# Altium schematic symbol library RF Module.SchLib: 22 symbols
Pins are listed as number, name and electrical type; pins without a type are passive.

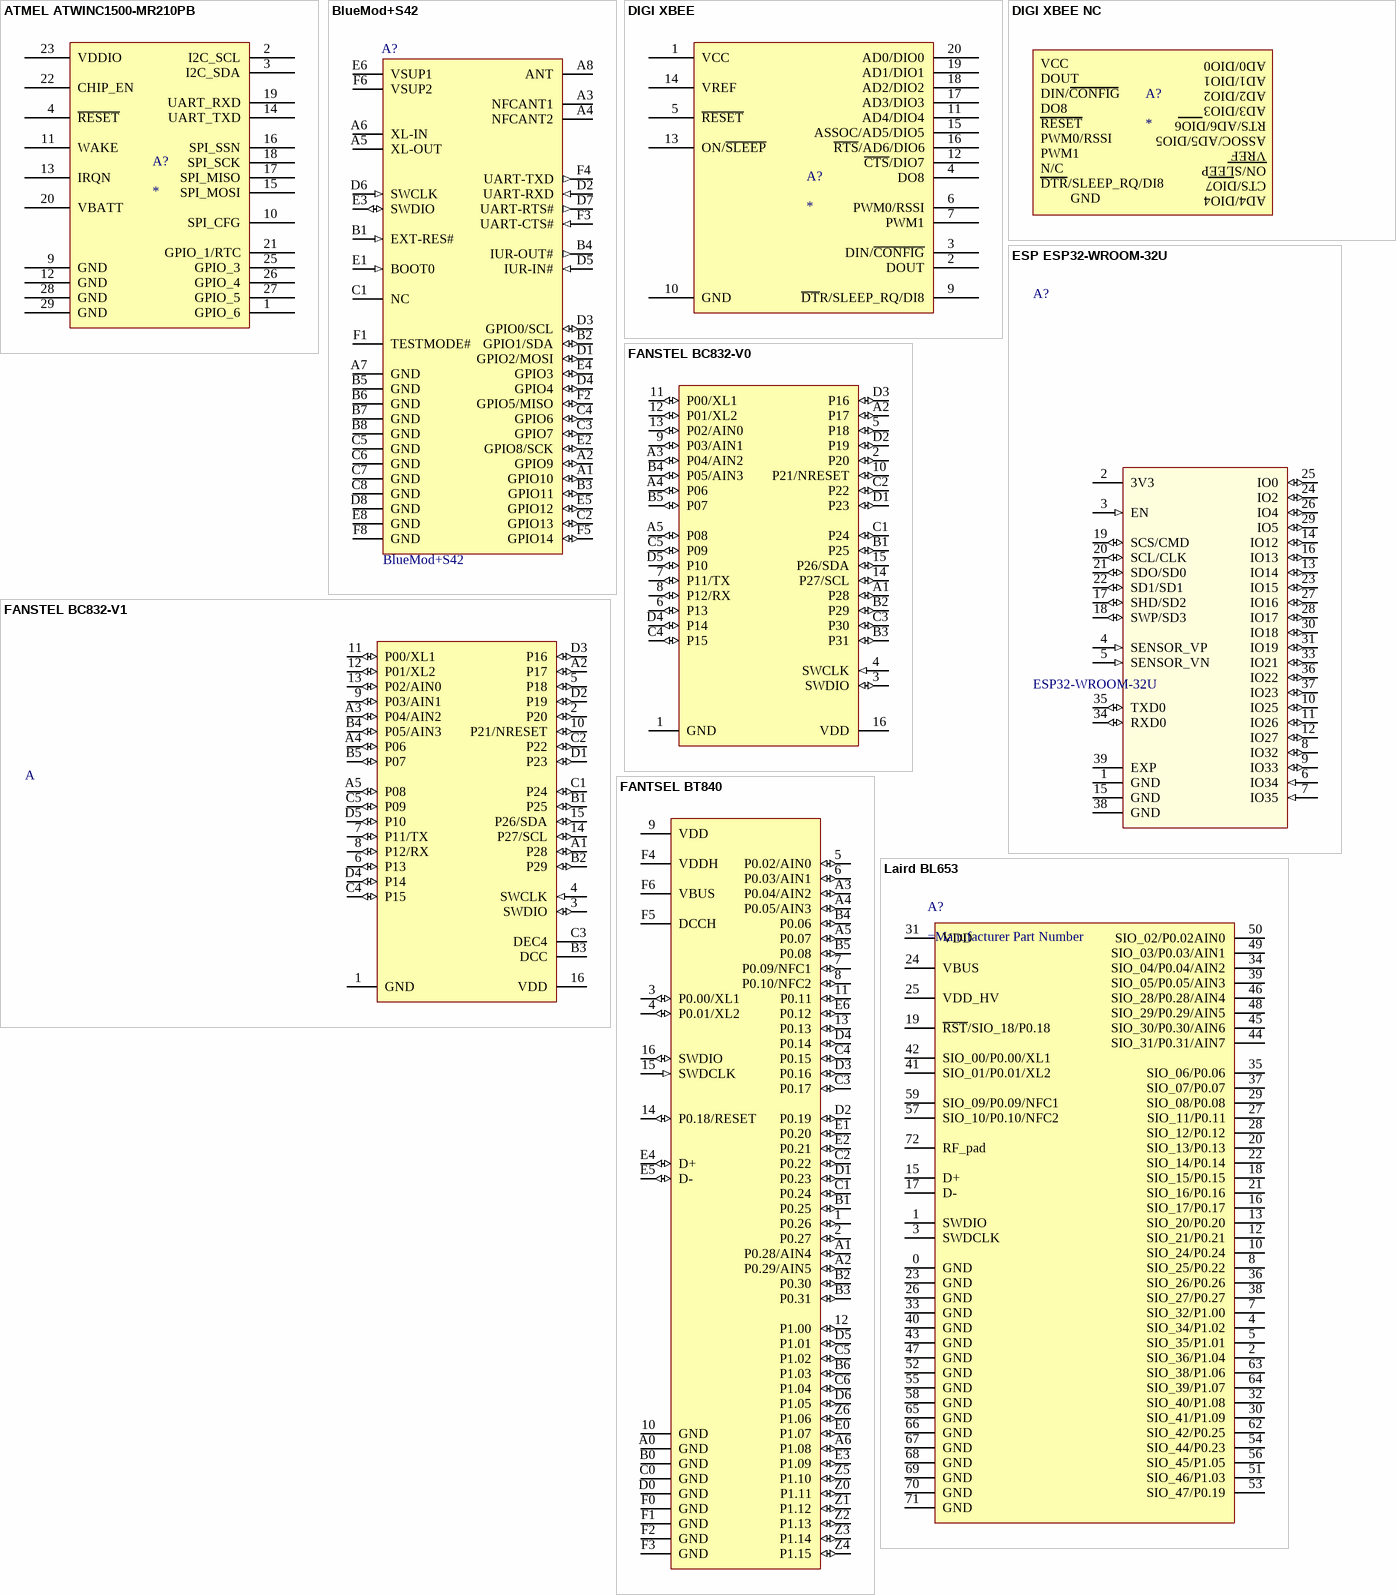
[diagram p0: symbols ATMEL ATWINC1500-MR210PB to Laird BL653]

## ATMEL ATWINC1500-MR210PB
designator A?
pins: 1 GPIO_6, 2 I2C_SCL, 3 I2C_SDA, 4 ~{RESET}, 9 GND, 10 SPI_CFG, 11 WAKE, 12 GND, 13 IRQN, 14 UART_TXD, 15 SPI_MOSI, 16 SPI_SSN, 17 SPI_MISO, 18 SPI_SCK, 19 UART_RXD, 20 VBATT, 21 GPIO_1/RTC, 22 CHIP_EN, 23 VDDIO, 25 GPIO_3, 26 GPIO_4, 27 GPIO_5, 28 GND, 29 GND

## BlueMod+S42
designator A?
The BlueMod+S42 is a high-performance Bluetooth 4.2 qualified single mode module.; Utilized IC/Part: nRF52832; Paket: Module; Satıcı: Digikey; Suplier Code: -96dBm; Frequency: 2.4GHz; Protocol: Bluetooth v4.2; Power Output: 4dBm; Antenna Type: Integrated, Chip; Voltage Supply: 1.8 - 3.6 V; Current Transmitting: 7.5mA; Depo Kodu: *; Satın Alma Linki: *; Datasheet: -; Manufacturer Code: BlueMod+S42; RF Family/Standard: Bluetooth; Modulation: -; Sensitivity: *; Data Rate: *; Current Receiving: -; Memory Size: -; Operating Temperature: -40°C ~ 85°C; Mounting Type: Surface Mount; Value: BlueMod+S42
footprint BlueMod+S42 (Bluetooth 4.2 Low Energy plug-and-play module)
pins: A1 GPIO10 (io), A2 GPIO9 (io), A3 NFCANT1, A4 NFCANT2, A5 XL-OUT, A6 XL-IN, A7 GND (power), A8 ANT (power), B1 EXT-RES# (in), B2 GPIO1/SDA (io), B3 GPIO11 (io), B4 IUR-OUT# (out), B5 GND (power), B6 GND (power), B7 GND (power), B8 GND (power), C1 NC (power), C2 GPIO13 (io), C3 GPIO7 (io), C4 GPIO6 (io), C5 GND (power), C6 GND (power), C7 GND (power), C8 GND (power), D1 GPIO2/MOSI (io), D2 UART-RXD (in), D3 GPIO0/SCL (io), D4 GPIO4 (io), D5 IUR-IN# (in), D6 SWCLK (in), D7 UART-RTS# (out), D8 GND (power), E1 BOOT0 (in), E2 GPIO8/SCK (io), E3 SWDIO (io), E4 GPIO3 (io), E5 GPIO12 (io), E6 VSUP1 (power), E8 GND (power), F1 TESTMODE#, F2 GPIO5/MISO (io), F3 UART-CTS# (in), F4 UART-TXD (out), F5 GPIO14 (io), F6 VSUP2 (power), F8 GND (power)

## DIGI XBEE
designator A?
pins: 1 VCC, 2 DOUT, 3 DIN/~{CONFIG}, 4 DO8, 5 ~{RESET}, 6 PWM0/RSSI, 7 PWM1, 9 ~{DT}R/SLEEP_RQ/DI8, 10 GND, 11 AD4/DIO4, 12 ~{CTS}/DIO7, 13 ON/~{SLEEP}, 14 VREF, 15 ASSOC/AD5/DIO5, 16 ~{RTS}/AD6/DIO6, 17 AD3/DIO3, 18 AD2/DIO2, 19 AD1/DIO1, 20 AD0/DIO0

## DIGI XBEE NC
designator A?
text: AD0/DIO0; VCC; AD1/DIO1; DOUT; AD2/DIO2; DIN/CONFIG; AD3/DIO3; DO8; RTS/AD6/DIO6; RESET; ASSOC/AD5/DIO5; PWM0/RSSI; VREF; PWM1; ON/SLEEP; N/C; CTS/DIO7; DTR/SLEEP_RQ/DI8; AD4/DIO4; GND

## ESP ESP32-WROOM-32U
designator A?, comment ESP32-WROOM-32U
Wi-Fi/BT BLE Module ESP32-D0WD SPI Flash UART U.FL Conn.
footprint ESP32-WROOM-32U
pins: 1 GND (power), 2 3V3 (power), 3 EN (in), 4 SENSOR_VP (in), 5 SENSOR_VN (in), 6 IO34 (in), 7 IO35 (in), 8 IO32 (io), 9 IO33 (io), 10 IO25 (io), 11 IO26 (io), 12 IO27 (io), 13 IO14 (io), 14 IO12 (io), 15 GND (power), 16 IO13 (io), 17 SHD/SD2 (io), 18 SWP/SD3 (io), 19 SCS/CMD (io), 20 SCL/CLK (io), 21 SDO/SD0 (io), 22 SD1/SD1 (io), 23 IO15 (io), 24 IO2 (io), 25 IO0 (io), 26 IO4 (io), 27 IO16 (io), 28 IO17 (io), 29 IO5 (io), 30 IO18 (io), 31 IO19 (io), 33 IO21 (io), 34 RXD0 (io), 35 TXD0 (io), 36 IO22 (io), 37 IO23 (io), 38 GND (power), 39 EXP (power)

## FANSTEL BC832-V0
designator A?
GateName_1: G$1; SymbolName_1: BC832-V0; LibraryName: BC832; DeviceSetName: BC832-V0; Package: BC832
footprint Fantsel BC832 (Fantsel BLE Micro Module Ver 2.0)
pins: 1 GND (power), 2 P20 (io), 3 SWDIO (io), 4 SWCLK (in), 5 P18 (io), 6 P13 (io), 7 P11/TX (io), 8 P12/RX (io), 9 P03/AIN1 (io), 10 P21/NRESET (io), 11 P00/XL1 (io), 12 P01/XL2 (io), 13 P02/AIN0 (io), 14 P27/SCL (io), 15 P26/SDA (io), 16 VDD (power), A1 P28 (io), A2 P17 (io), A3 P04/AIN2 (io), A4 P06 (io), A5 P08 (io), B1 P25 (io), B2 P29 (io), B3 P31 (io), B4 P05/AIN3 (io), B5 P07 (io), C1 P24 (io), C2 P22 (io), C3 P30 (io), C4 P15 (io), C5 P09 (io), D1 P23 (io), D2 P19 (io), D3 P16 (io), D4 P14 (io), D5 P10 (io)

## FANSTEL BC832-V1
designator A, comment B3 DCC ,C3 DEC4 for power saving , 10uH , 15nH  (value not drawn)
GateName_1: G$1; SymbolName_1: BC832-V1; LibraryName: BC832; DeviceSetName: BC832-V1; Package: BC832
footprint Fantsel BC832 (Fantsel BLE Micro Module Ver 2.0)
pins: 1 GND (power), 2 P20 (io), 3 SWDIO (io), 4 SWCLK (in), 5 P18 (io), 6 P13 (io), 7 P11/TX (io), 8 P12/RX (io), 9 P03/AIN1 (io), 10 P21/NRESET (io), 11 P00/XL1 (io), 12 P01/XL2 (io), 13 P02/AIN0 (io), 14 P27/SCL (io), 15 P26/SDA (io), 16 VDD (power), A1 P28 (io), A2 P17 (io), A3 P04/AIN2 (io), A4 P06 (io), A5 P08 (io), B1 P25 (io), B2 P29 (io), B3 DCC (power), B4 P05/AIN3 (io), B5 P07 (io), C1 P24 (io), C2 P22 (io), C3 DEC4 (power), C4 P15 (io), C5 P09 (io), D1 P23 (io), D2 P19 (io), D3 P16 (io), D4 P14 (io), D5 P10 (io)

## FANTSEL BT840
designator A?
footprint FANTSEL BT840
pins: 1 P0.26 (io), 2 P0.27 (io), 3 P0.00/XL1 (io), 4 P0.01/XL2 (io), 5 P0.02/AIN0 (io), 6 P0.03/AIN1 (io), 7 P0.09/NFC1 (io), 8 P0.10/NFC2 (io), 9 VDD (power), 10 GND (power), 11 P0.11 (io), 12 P1.00 (io), 13 P0.13 (io), 14 P0.18/RESET (io), 15 SWDCLK (in), 16 SWDIO (io), A0 GND (power), A1 P0.28/AIN4 (io), A2 P0.29/AIN5 (io), A3 P0.04/AIN2 (io), A4 P0.05/AIN3 (io), A5 P0.07 (io), A6 P1.08 (io), B0 GND (power), B1 P0.25 (io), B2 P0.30 (io), B3 P0.31 (io), B4 P0.06 (io), B5 P0.08 (io), B6 P1.03 (io), C0 GND (power), C1 P0.24 (io), C2 P0.22 (io), C3 P0.17 (io), C4 P0.15 (io), C5 P1.02 (io), C6 P1.04 (io), D0 GND (power), D1 P0.23 (io), D2 P0.19 (io), D3 P0.16 (io), D4 P0.14 (io), D5 P1.01 (io), D6 P1.05 (io), E0 P1.07 (io), E1 P0.20 (io), E2 P0.21 (io), E3 P1.09 (io), E4 D+ (io), E5 D- (io), E6 P0.12 (io), F0 GND (power), F1 GND (power), F2 GND (power), F3 GND (power), F4 VDDH (power), F5 DCCH (power), F6 VBUS (power), Z0 P1.11 (io), Z1 P1.12 (io), Z2 P1.13 (io), Z3 P1.14 (io), Z4 P1.15 (io), Z5 P1.10 (io), Z6 P1.06 (io)

## Laird BL653
designator A?
Powered by Nordic’s nRF52833 silicon, the small form factor BL653 modules and DVKs provide for a secure, robust BLE and Cortex -M4F CPU for any OEM’s product design.
footprint Laird BL653
pins: 0 GND, 1 SWDIO, 2 SIO_36/P1.04, 3 SWDCLK, 4 SIO_34/P1.02, 5 SIO_35/P1.01, 7 SIO_32/P1.00, 8 SIO_25/P0.22, 10 SIO_24/P0.24, 12 SIO_21/P0.21, 13 SIO_20/P0.20, 15 D+, 16 SIO_17/P0.17, 17 D-, 18 SIO_15/P0.15, 19 ~{RST}/SIO_18/P0.18, 20 SIO_13/P0.13, 21 SIO_16/P0.16, 22 SIO_14/P0.14, 23 GND, 24 VBUS, 25 VDD_HV, 26 GND, 27 SIO_11/P0.11, 28 SIO_12/P0.12, 29 SIO_08/P0.08, 30 SIO_41/P1.09, 31 VDD, 32 SIO_40/P1.08, 33 GND, 34 SIO_04/P0.04/AIN2, 35 SIO_06/P0.06, 36 SIO_26/P0.26, 37 SIO_07/P0.07, 38 SIO_27/P0.27, 39 SIO_05/P0.05/AIN3, 40 GND, 41 SIO_01/P0.01/XL2, 42 SIO_00/P0.00/XL1, 43 GND, 44 SIO_31/P0.31/AIN7, 45 SIO_30/P0.30/AIN6, 46 SIO_28/P0.28/AIN4, 47 GND, 48 SIO_29/P0.29/AIN5, 49 SIO_03/P0.03/AIN1, 50 SIO_02/P0.02AIN0, 51 SIO_46/P1.03, 52 GND, 53 SIO_47/P0.19, 54 SIO_44/P0.23, 55 GND, 56 SIO_45/P1.05, 57 SIO_10/P0.10/NFC2, 58 GND, 59 SIO_09/P0.09/NFC1, 62 SIO_42/P0.25, 63 SIO_38/P1.06, 64 SIO_39/P1.07, 65 GND, 66 GND, 67 GND, 68 GND, 69 GND, 70 GND, 71 GND, 72 RF_pad

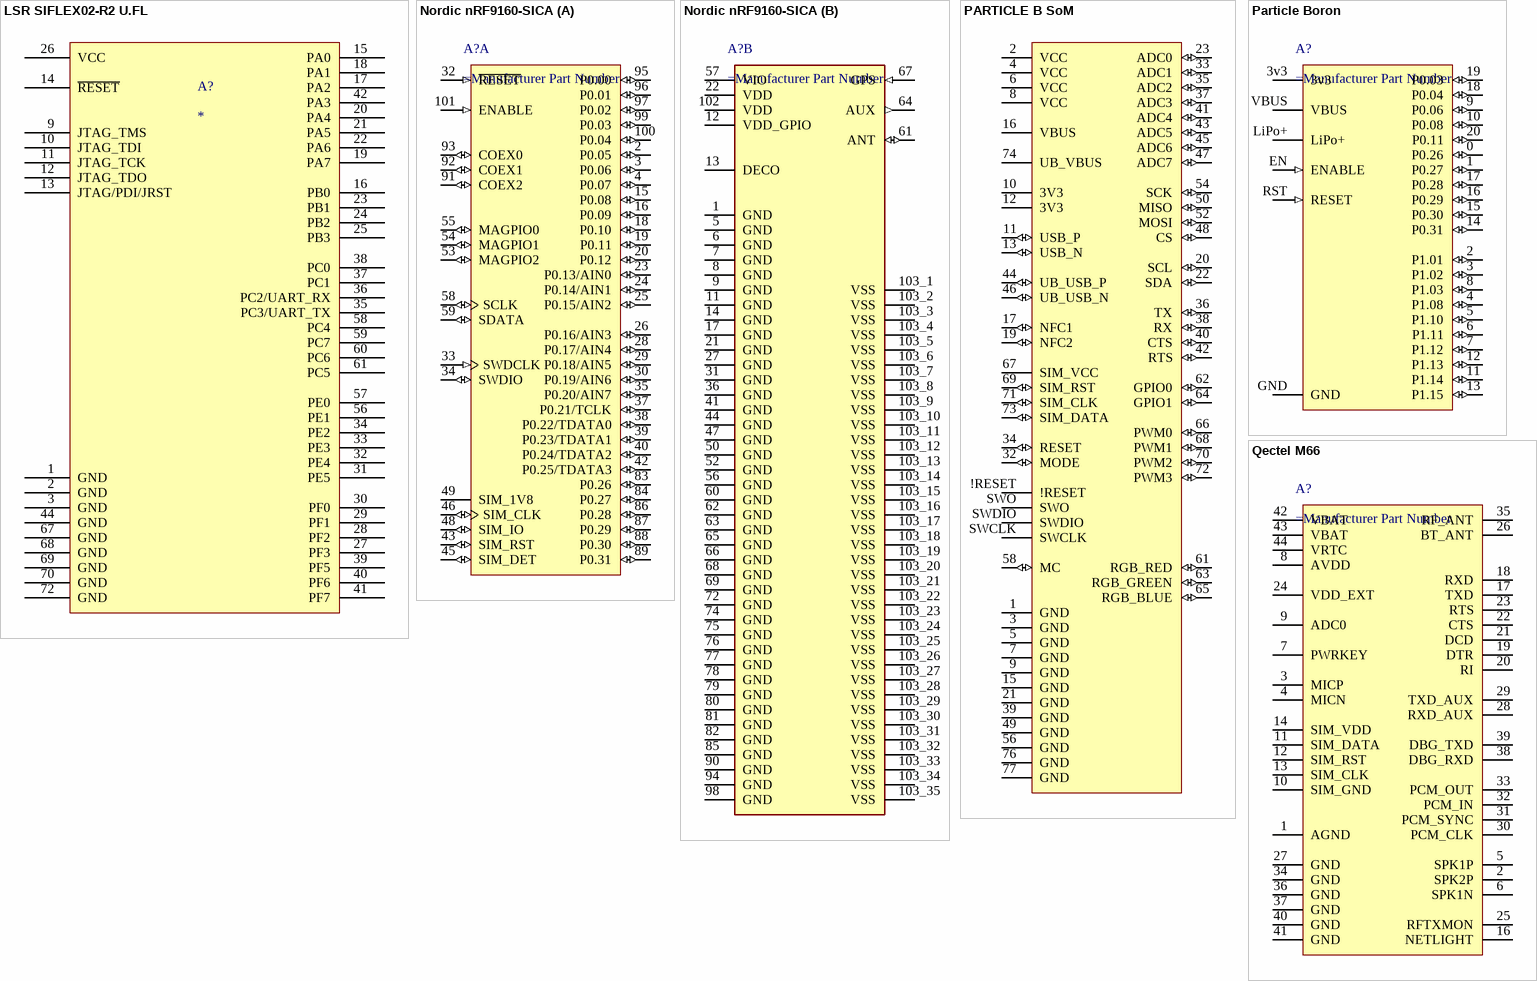
[diagram p1: symbols LSR SIFLEX02-R2 U.FL to Qectel M66]

## LSR SIFLEX02-R2 U.FL
designator A?
pins: 1 GND, 2 GND, 3 GND, 9 JTAG_TMS, 10 JTAG_TDI, 11 JTAG_TCK, 12 JTAG_TDO, 13 JTAG/PDI/JRST, 14 ~{RESET}, 15 PA0, 16 PB0, 17 PA2, 18 PA1, 19 PA7, 20 PA4, 21 PA5, 22 PA6, 23 PB1, 24 PB2, 25 PB3, 26 VCC, 27 PF3, 28 PF2, 29 PF1, 30 PF0, 31 PE5, 32 PE4, 33 PE3, 34 PE2, 35 PC3/UART_TX, 36 PC2/UART_RX, 37 PC1, 38 PC0, 39 PF5, 40 PF6, 41 PF7, 42 PA3, 44 GND, 56 PE1, 57 PE0, 58 PC4, 59 PC7, 60 PC6, 61 PC5, 67 GND, 68 GND, 69 GND, 70 GND, 72 GND

## Nordic nRF9160-SICA
designator A?
SoC 32-Bit ARM Cortex M33 RISC 64MHz Single Core 1MB 127-Pin LGA T/R
footprint Nordic LGA 16.0x10.5
part A pins: 2 P0.05 (io), 3 P0.06 (io), 4 P0.07 (io), 15 P0.08 (io), 16 P0.09 (io), 18 P0.10 (io), 19 P0.11 (io), 20 P0.12 (io), 23 P0.13/AIN0 (io), 24 P0.14/AIN1 (io), 25 P0.15/AIN2 (io), 26 P0.16/AIN3 (io), 28 P0.17/AIN4 (io), 29 P0.18/AIN5 (io), 30 P0.19/AIN6 (io), 32 ~{RESET} (in), 33 SWDCLK (in), 34 SWDIO (io), 35 P0.20/AIN7 (io), 37 P0.21/TCLK (io), 38 P0.22/TDATA0 (io), 39 P0.23/TDATA1 (io), 40 P0.24/TDATA2 (io), 42 P0.25/TDATA3 (io), 43 SIM_RST (io), 45 SIM_DET (io), 46 SIM_CLK (io), 48 SIM_IO (io), 49 SIM_1V8 (power), 53 MAGPIO2 (io), 54 MAGPIO1 (io), 55 MAGPIO0 (io), 58 SCLK (io), 59 SDATA (io), 83 P0.26 (io), 84 P0.27 (io), 86 P0.28 (io), 87 P0.29 (io), 88 P0.30 (io), 89 P0.31 (io), 91 COEX2 (io), 92 COEX1 (io), 93 COEX0 (io), 95 P0.00 (io), 96 P0.01 (io), 97 P0.02 (io), 99 P0.03 (io), 100 P0.04 (io), 101 ENABLE (in)
part B pins: 1 GND (power), 5 GND (power), 6 GND (power), 7 GND (power), 8 GND (power), 9 GND (power), 11 GND (power), 12 VDD_GPIO (power), 13 DECO (power), 14 GND (power), 17 GND (power), 21 GND (power), 22 VDD (power), 27 GND (power), 31 GND (power), 36 GND (power), 41 GND (power), 44 GND (power), 47 GND (power), 50 GND (power), 52 GND (power), 56 GND (power), 57 VIO (power), 60 GND (power), 61 ANT (io), 62 GND (power), 63 GND (power), 64 AUX (out), 65 GND (power), 66 GND (power), 67 GPS (in), 68 GND (power), 69 GND (power), 72 GND (power), 74 GND (power), 75 GND (power), 76 GND (power), 77 GND (power), 78 GND (power), 79 GND (power), 80 GND (power), 81 GND (power), 82 GND (power), 85 GND (power), 90 GND (power), 94 GND (power), 98 GND (power), 102 VDD (power), 103_1 VSS (power), 103_2 VSS (power), 103_3 VSS (power), 103_4 VSS (power), 103_5 VSS (power), 103_6 VSS (power), 103_7 VSS (power), 103_8 VSS (power), 103_9 VSS (power), 103_10 VSS (power), 103_11 VSS (power), 103_12 VSS (power), 103_13 VSS (power), 103_14 VSS (power), 103_15 VSS (power), 103_16 VSS (power), 103_17 VSS (power), 103_18 VSS (power), 103_19 VSS (power), 103_20 VSS (power), 103_21 VSS (power), 103_22 VSS (power), 103_23 VSS (power), 103_24 VSS (power), 103_25 VSS (power), 103_26 VSS (power), 103_27 VSS (power), 103_28 VSS (power), 103_29 VSS (power), 103_30 VSS (power), 103_31 VSS (power), 103_32 VSS (power), 103_33 VSS (power), 103_34 VSS (power), 103_35 VSS (power)

## PARTICLE B SoM
designator A?
The B Series is a powerful cellular-enabled system-on-a-module (SoM) designed for mass-production. It includes the Nordic nRF52840 and with support for cellular and Bluetooth LE.
footprint PARTICLE B SoM
pins: 1 GND (power), 2 VCC (power), 3 GND (power), 4 VCC (power), 5 GND (power), 6 VCC (power), 7 GND (power), 8 VCC (power), 9 GND (power), 10 3V3 (power), 11 USB_P (io), 12 3V3 (power), 13 USB_N (io), 15 GND (power), 16 VBUS (power), 17 NFC1 (io), 19 NFC2 (io), 20 SCL (io), 21 GND (power), 22 SDA (io), 23 ADC0 (io), 32 MODE (io), 33 ADC1 (io), 34 RESET (io), 35 ADC2 (io), 36 TX (io), 37 ADC3 (io), 38 RX (io), 39 GND (power), 40 CTS (io), 41 ADC4 (io), 42 RTS (io), 43 ADC5 (io), 44 UB_USB_P (io), 45 ADC6 (io), 46 UB_USB_N (io), 47 ADC7 (io), 48 CS (io), 49 GND (power), 50 MISO (io), 52 MOSI (io), 54 SCK (io), 56 GND (power), 58 MC (io), 61 RGB_RED (io), 62 GPIO0 (io), 63 RGB_GREEN (io), 64 GPIO1 (io), 65 RGB_BLUE (io), 66 PWM0 (io), 67 SIM_VCC (power), 68 PWM1 (io), 69 SIM_RST (io), 70 PWM2 (io), 71 SIM_CLK (io), 72 PWM3 (io), 73 SIM_DATA (io), 74 UB_VBUS (power), 76 GND (power), 77 GND (power), !RESET (power), SWCLK (power), SWDIO (power), SWO (power)

## Particle Boron
designator A?
The Boron is a powerful LTE Cat M1 or 2G/3G enabled development kit that supports cellular networks and Bluetooth LE (BLE). It is based on the Nordic nRF52840 and has built-in battery charging circuitry so it’s easy to connect a Li-Po and deploy your local network in minutes.
footprint PARTICLE BORON
pins: 0 P0.26 (io), 1 P0.27 (io), 2 P1.01 (io), 3 P1.02 (io), 3v3 (power), 4 P1.08 (io), 5 P1.10 (io), 6 P1.11 (io), 7 P1.12 (io), 8 P1.03 (io), 9 P0.06 (io), 10 P0.08 (io), 11 P1.14 (io), 12 P1.13 (io), 13 P1.15 (io), 14 P0.31 (io), 15 P0.30 (io), 16 P0.29 (io), 17 P0.28 (io), 18 P0.04 (io), 19 P0.03 (io), 20 P0.11 (io), EN ENABLE (in), GND (power), LiPo+ (power), RST RESET (in), VBUS (power)

## Qectel M66
designator A?
GSM/GPRS Module Series
footprint QUECTEL - M66
pins: 1 AGND (power), 2 SPK2P, 3 MICP, 4 MICN, 5 SPK1P, 6 SPK1N, 7 PWRKEY, 8 AVDD, 9 ADC0, 10 SIM_GND, 11 SIM_DATA, 12 SIM_RST, 13 SIM_CLK, 14 SIM_VDD, 15 NC hidden, 16 NETLIGHT, 17 TXD, 18 RXD, 19 DTR, 20 RI, 21 DCD, 22 CTS, 23 RTS, 24 VDD_EXT, 25 RFTXMON, 26 BT_ANT, 27 GND, 28 RXD_AUX, 29 TXD_AUX, 30 PCM_CLK, 31 PCM_SYNC, 32 PCM_IN, 33 PCM_OUT, 34 GND, 35 RF_ANT, 36 GND, 37 GND, 38 DBG_RXD, 39 DBG_TXD, 40 GND, 41 GND, 42 VBAT, 43 VBAT, 44 VRTC

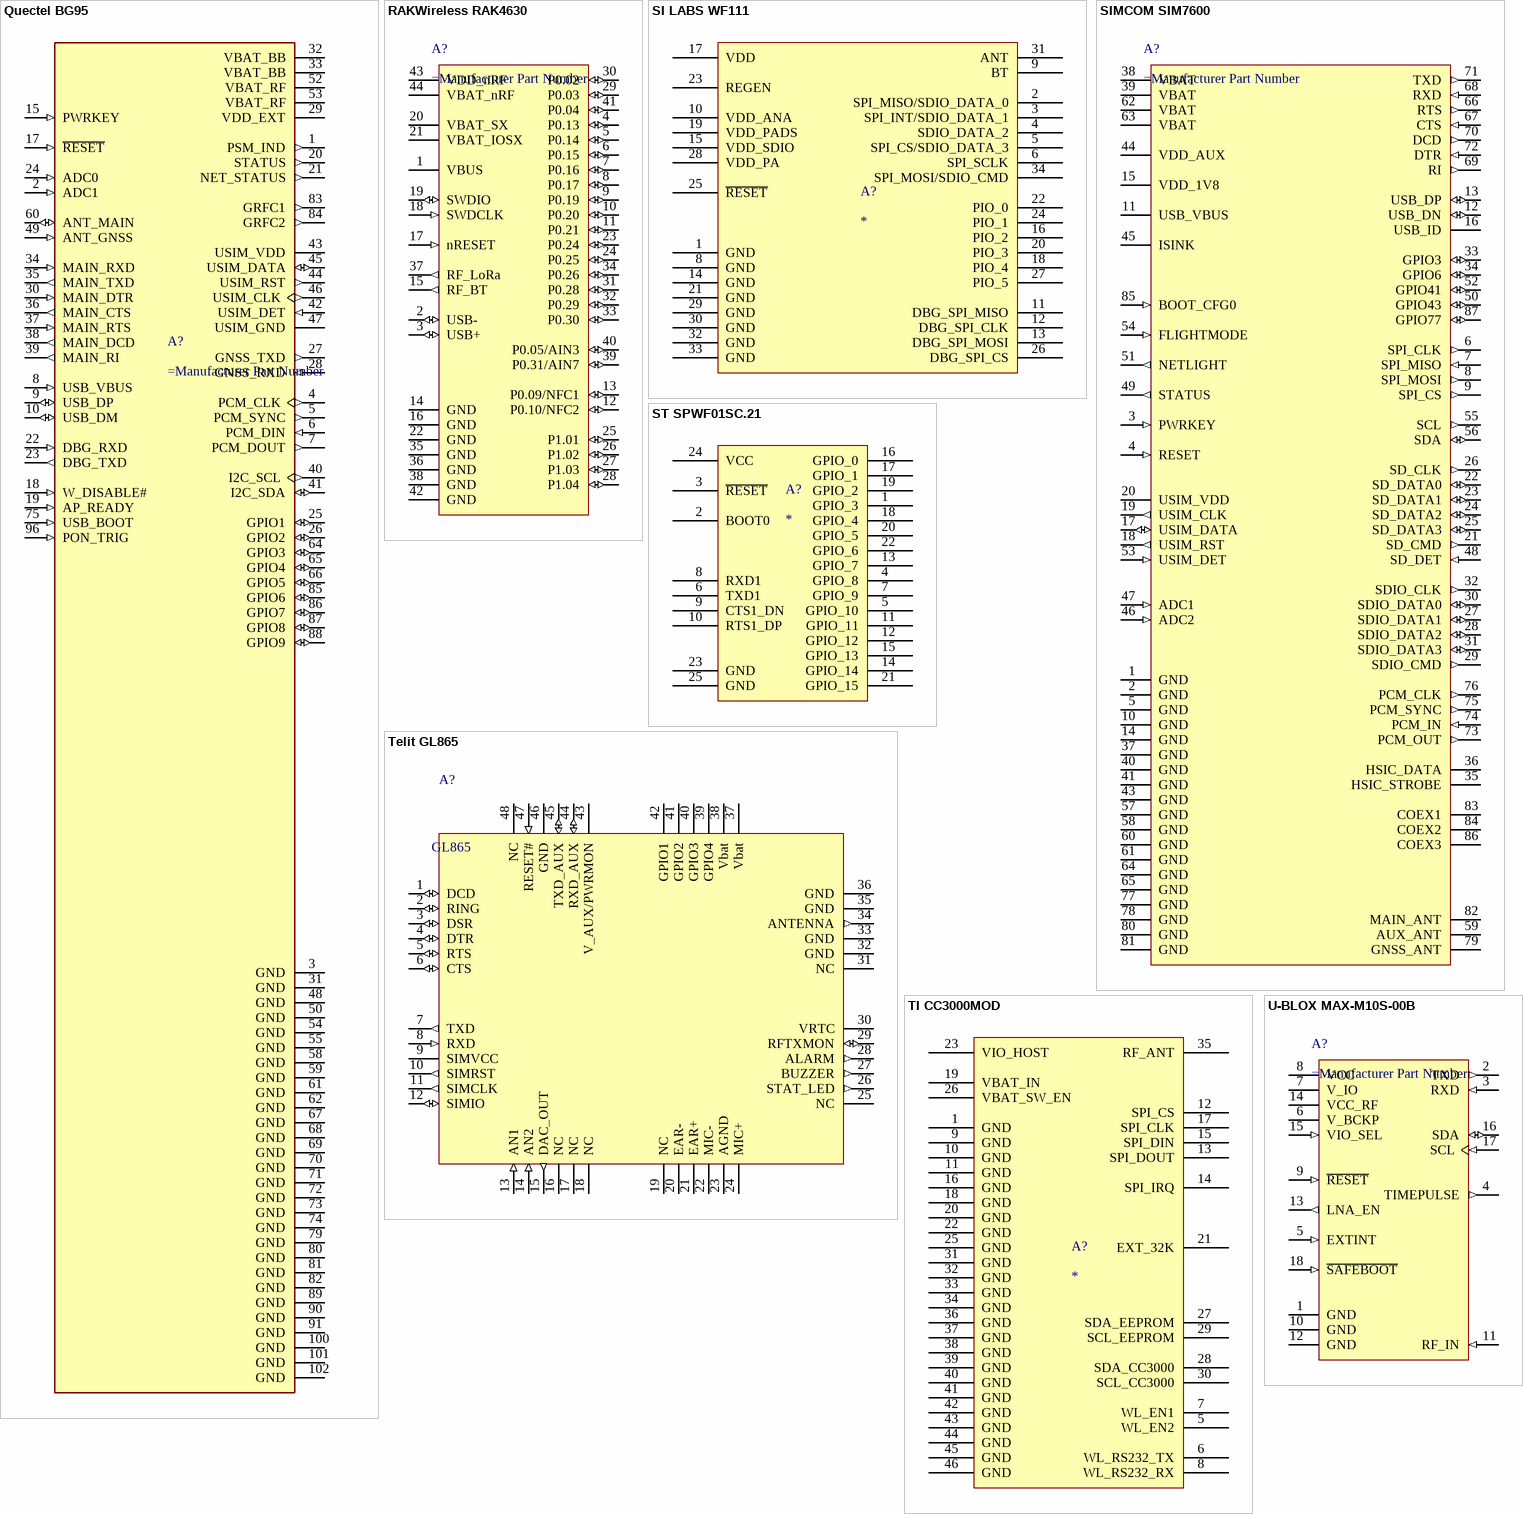
[diagram p2: symbols Quectel BG95 to U-BLOX MAX-M10S-00B]

## Quectel BG95
designator A?
LTE Cat M1/ Cat NB2/EGPRS Module; MF: Quectel; MP: BG95; Package: Custom Quectel; Availability: Not in stock; Value: *; Check_prices: https://www.snapeda.com/parts/BG95/Quectel/view-part/?ref=eda; Price: None; SnapEDA_Link: https://www.snapeda.com/parts/BG95/Quectel/view-part/?ref=snap
footprint QUECTEL - BG95
pins: 1 PSM_IND (out), 2 ADC1 (in), 3 GND (power), 4 PCM_CLK (out), 5 PCM_SYNC (out), 6 PCM_DIN (in), 7 PCM_DOUT (out), 8 USB_VBUS (in), 9 USB_DP (io), 10 USB_DM (io), 15 PWRKEY (in), 17 ~{RESET} (in), 18 W_DISABLE# (in), 19 AP_READY (in), 20 STATUS (out), 21 NET_STATUS (out), 22 DBG_RXD (in), 23 DBG_TXD (out), 24 ADC0 (in), 25 GPIO1 (io), 26 GPIO2 (io), 27 GNSS_TXD (out), 28 GNSS_RXD (in), 29 VDD_EXT (power), 30 MAIN_DTR (in), 31 GND (power), 32 VBAT_BB (power), 33 VBAT_BB (power), 34 MAIN_RXD (in), 35 MAIN_TXD (out), 36 MAIN_CTS (out), 37 MAIN_RTS (in), 38 MAIN_DCD (out), 39 MAIN_RI (out), 40 I2C_SCL (out), 41 I2C_SDA (io), 42 USIM_DET (in), 43 USIM_VDD (power), 44 USIM_RST (out), 45 USIM_DATA (io), 46 USIM_CLK (out), 47 USIM_GND (power), 48 GND (power), 49 ANT_GNSS (in), 50 GND (power), 52 VBAT_RF (power), 53 VBAT_RF (power), 54 GND (power), 55 GND (power), 58 GND (power), 59 GND (power), 60 ANT_MAIN (io), 61 GND (power), 62 GND (power), 64 GPIO3 (io), 65 GPIO4 (io), 66 GPIO5 (io), 67 GND (power), 68 GND (power), 69 GND (power), 70 GND (power), 71 GND (power), 72 GND (power), 73 GND (power), 74 GND (power), 75 USB_BOOT (in), 79 GND (power), 80 GND (power), 81 GND (power), 82 GND (power), 83 GRFC1 (out), 84 GRFC2 (out), 85 GPIO6 (io), 86 GPIO7 (io), 87 GPIO8 (io), 88 GPIO9 (io), 89 GND (power), 90 GND (power), 91 GND (power), 96 PON_TRIG (in), 100 GND (power), 101 GND (power), 102 GND (power)

## RAKWireless RAK4630
designator A?
The RAK4630 is a low-power long-range transceiver module based on Nordic nRF52840 MCU that supports Bluetooth 5.0 (Bluetooth Low Energy) and the newest SX1262 LoRa transceiver from Semtech.
footprint RAK Wireless RAK4630 (RAK4630 Module)
pins: 1 VBUS (power), 2 USB- (io), 3 USB+ (io), 4 P0.13 (io), 5 P0.14 (io), 6 P0.15 (io), 7 P0.16 (io), 8 P0.17 (io), 9 P0.19 (io), 10 P0.20 (io), 11 P0.21 (io), 12 P0.10/NFC2 (io), 13 P0.09/NFC1 (io), 14 GND (power), 15 RF_BT (out), 16 GND (power), 17 nRESET (in), 18 SWDCLK (in), 19 SWDIO (io), 20 VBAT_SX (power), 21 VBAT_IOSX (power), 22 GND (power), 23 P0.24 (io), 24 P0.25 (io), 25 P1.01 (io), 26 P1.02 (io), 27 P1.03 (io), 28 P1.04 (io), 29 P0.03 (io), 30 P0.02 (io), 31 P0.28 (io), 32 P0.29 (io), 33 P0.30 (io), 34 P0.26 (io), 35 GND (power), 36 GND (power), 37 RF_LoRa (out), 38 GND (power), 39 P0.31/AIN7 (io), 40 P0.05/AIN3 (io), 41 P0.04 (io), 42 GND (power), 43 VDD_nRF (power), 44 VBAT_nRF (power)

## SI LABS WF111
designator A?
pins: 1 GND, 2 SPI_MISO/SDIO_DATA_0, 3 SPI_INT/SDIO_DATA_1, 4 SDIO_DATA_2, 5 SPI_CS/SDIO_DATA_3, 6 SPI_SCLK, 8 GND, 9 BT, 10 VDD_ANA, 11 DBG_SPI_MISO, 12 DBG_SPI_CLK, 13 DBG_SPI_MOSI, 14 GND, 15 VDD_SDIO, 16 PIO_2, 17 VDD, 18 PIO_4, 19 VDD_PADS, 20 PIO_3, 21 GND, 22 PIO_0, 23 REGEN, 24 PIO_1, 25 ~{RESET}, 26 DBG_SPI_CS, 27 PIO_5, 28 VDD_PA, 29 GND, 30 GND, 31 ANT, 32 GND, 33 GND, 34 SPI_MOSI/SDIO_CMD

## SIMCOM SIM7600
designator A?
SIM7600 Series; Manufacturer_Name: SIMCOM; Manufacturer_Part_Number: SIM7600EH; Datasheet Link: https://www.waveshare.com/w/upload/f/fd/SIM7600_Series_Hardware_Design_V1.02.pdf; Height: 3.1mm
footprint SIMCOM SIM7600EH
pins: 1 GND (power), 2 GND (power), 3 PWRKEY (in), 4 RESET (in), 5 GND (power), 6 SPI_CLK (out), 7 SPI_MISO (in), 8 SPI_MOSI (out), 9 SPI_CS (out), 10 GND (power), 11 USB_VBUS (power), 12 USB_DN (io), 13 USB_DP (io), 14 GND (power), 15 VDD_1V8 (power), 16 USB_ID, 17 USIM_DATA (io), 18 USIM_RST (out), 19 USIM_CLK (out), 20 USIM_VDD (power), 21 SD_CMD (out), 22 SD_DATA0 (io), 23 SD_DATA1 (io), 24 SD_DATA2 (io), 25 SD_DATA3 (io), 26 SD_CLK (out), 27 SDIO_DATA1 (io), 28 SDIO_DATA2 (io), 29 SDIO_CMD (out), 30 SDIO_DATA0 (io), 31 SDIO_DATA3 (io), 32 SDIO_CLK (out), 33 GPIO3 (io), 34 GPIO6 (io), 35 HSIC_STROBE, 36 HSIC_DATA, 37 GND (power), 38 VBAT (power), 39 VBAT (power), 40 GND (power), 41 GND (power), 43 GND (power), 44 VDD_AUX (power), 45 ISINK (power), 46 ADC2 (in), 47 ADC1 (in), 48 SD_DET (in), 49 STATUS (out), 50 GPIO43 (io), 51 NETLIGHT (out), 52 GPIO41 (io), 53 USIM_DET (in), 54 FLIGHTMODE (in), 55 SCL (out), 56 SDA (io), 57 GND (power), 58 GND (power), 59 AUX_ANT, 60 GND (power), 61 GND (power), 62 VBAT (power), 63 VBAT (power), 64 GND (power), 65 GND (power), 66 RTS (out), 67 CTS (in), 68 RXD (in), 69 RI (out), 70 DCD (out), 71 TXD (out), 72 DTR (in), 73 PCM_OUT (out), 74 PCM_IN (in), 75 PCM_SYNC (out), 76 PCM_CLK (out), 77 GND (power), 78 GND (power), 79 GNSS_ANT, 80 GND (power), 81 GND (power), 82 MAIN_ANT, 83 COEX1, 84 COEX2, 85 BOOT_CFG0 (in), 86 COEX3, 87 GPIO77 (io)

## ST SPWF01SC.21
designator A?
pins: 1 GPIO_3, 2 BOOT0, 3 ~{RESET}, 4 GPIO_8, 5 GPIO_10, 6 TXD1, 7 GPIO_9, 8 RXD1, 9 CTS1_DN, 10 RTS1_DP, 11 GPIO_11, 12 GPIO_12, 13 GPIO_7, 14 GPIO_14, 15 GPIO_13, 16 GPIO_0, 17 GPIO_1, 18 GPIO_4, 19 GPIO_2, 20 GPIO_5, 21 GPIO_15, 22 GPIO_6, 23 GND, 24 VCC, 25 GND

## Telit GL865
designator A?, comment GL865
GL865-DUAL is a dual band 900/1800 GSM/GPRS device in LCC castellation packaging with extremely low power consumption, extended temperature range and compact profile.; Manufacturer: Telit; MPN: GL865; Supplier: *; Price: *; SPN: *
footprint TELIT GL865 V3 (Telit GL865 Gsm/GPRS Module)
pins: 1 DCD (io), 2 RING (io), 3 DSR (io), 4 DTR (io), 5 RTS (io), 6 CTS (io), 7 TXD (out), 8 RXD (in), 9 SIMVCC (power), 10 SIMRST (out), 11 SIMCLK (out), 12 SIMIO (io), 13 AN1 (in), 14 AN2 (in), 15 DAC_OUT (out), 16 NC, 17 NC, 18 NC, 19 NC, 20 EAR- (power), 21 EAR+ (power), 22 MIC- (power), 23 AGND (power), 24 MIC+ (power), 25 NC, 26 STAT_LED (out), 27 BUZZER (out), 28 ALARM (out), 29 RFTXMON (io), 30 VRTC (oe), 31 NC, 32 GND (power), 33 GND (power), 34 ANTENNA (out), 35 GND (power), 36 GND (power), 37 Vbat (power), 38 Vbat (power), 39 GPIO4 (power), 40 GPIO3 (power), 41 GPIO2 (power), 42 GPIO1 (power), 43 V_AUX/PWRMON (power), 44 RXD_AUX (io), 45 TXD_AUX (io), 46 GND (power), 47 RESET# (in), 48 NC

## TI CC3000MOD
designator A?
pins: 1 GND, 5 WL_EN2, 6 WL_RS232_TX, 7 WL_EN1, 8 WL_RS232_RX, 9 GND, 10 GND, 11 GND, 12 SPI_CS, 13 SPI_DOUT, 14 SPI_IRQ, 15 SPI_DIN, 16 GND, 17 SPI_CLK, 18 GND, 19 VBAT_IN, 20 GND, 21 EXT_32K, 22 GND, 23 VIO_HOST, 25 GND, 26 VBAT_SW_EN, 27 SDA_EEPROM, 28 SDA_CC3000, 29 SCL_EEPROM, 30 SCL_CC3000, 31 GND, 32 GND, 33 GND, 34 GND, 35 RF_ANT, 36 GND, 37 GND, 38 GND, 39 GND, 40 GND, 41 GND, 42 GND, 43 GND, 44 GND, 45 GND, 46 GND, GND 40 hidden to Passive

## U-BLOX MAX-M10S-00B
designator A?
Standard precision GNSS module Professional grade; MP: MAX-M10S-00B; Package: None; Price: None; Value: *; Availability: Unavailable
footprint U-BLOX MAX-M10S-00B
pins: 1 GND (power), 2 TXD (out), 3 RXD (in), 4 TIMEPULSE (out), 5 EXTINT (in), 6 V_BCKP (power), 7 V_IO (power), 8 VCC (power), 9 ~{RESET} (in), 10 GND (power), 11 RF_IN (in), 12 GND (power), 13 LNA_EN (out), 14 VCC_RF (power), 15 VIO_SEL (in), 16 SDA (io), 17 SCL (in), 18 ~{SAFEBOOT} (in)